# Altium footprint library S202M29Z5UN63L6R.PcbLib: 1 footprints
Each footprint in its own frame and in the unit in brackets; x right, y up, seen from the top. Pads: shape width x height; smd on the part's side, far side on the other; paste and mask are expansions set on the pad; w line width, h text height; cw(c..) or ccw(c..) is an arc to the next point about the centre after c.
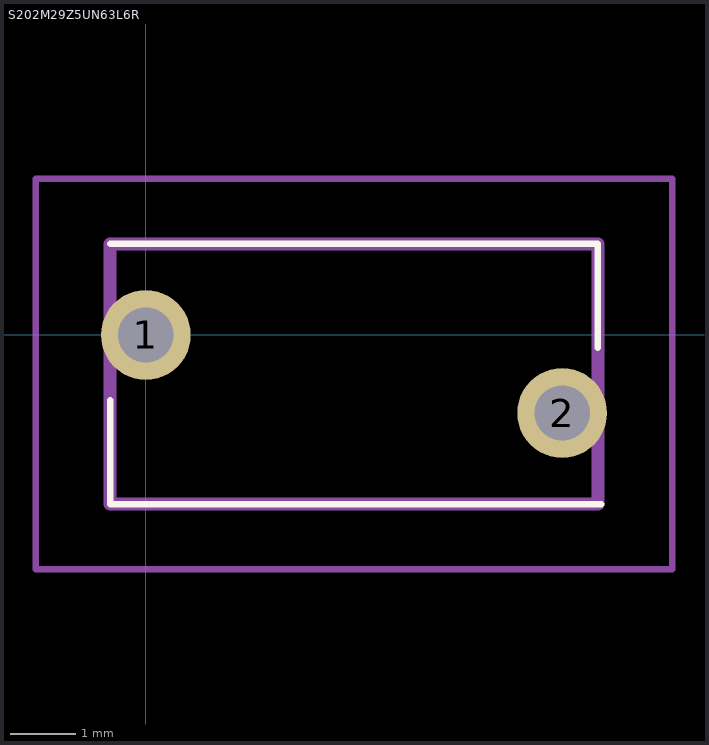
[diagram p0: the footprint, top view; thin cyan lines are the x and y axes]

## S202M29Z5UN63L6R [mm]
pads (2):
  round 1.381 hole 0.85: 1(0,0) 2(6.4,-1.2)
Top Overlay:
  lines w0.1: -0.55,-1 -0.55,-2.6 7,-2.6 6.95,-2.6 ; 6.95,-0.2 6.95,1.4 -0.55,1.4 ; -0.55,1.4 -0.55,1.4 ; -0.55,1.4 -0.55,1.4
Mechanical 15:
  lines w0.2: -0.55,-2.6 6.95,-2.6 6.95,1.4 -0.55,1.4 -0.55,-2.6
Mechanical 20:
  lines w0.1: -1.691,-3.6 8.091,-3.6 8.091,2.4 -1.691,2.4 -1.691,-3.6